# Altium footprint library Flanery.PcbLib: 125 footprints (part 6 of 8)
Each footprint in its own frame and in the unit in brackets; x right, y up, seen from the top. Pads: shape width x height; smd on the part's side, far side on the other; paste and mask are expansions set on the pad; w line width, h text height; cw(c..) or ccw(c..) is an arc to the next point about the centre after c.
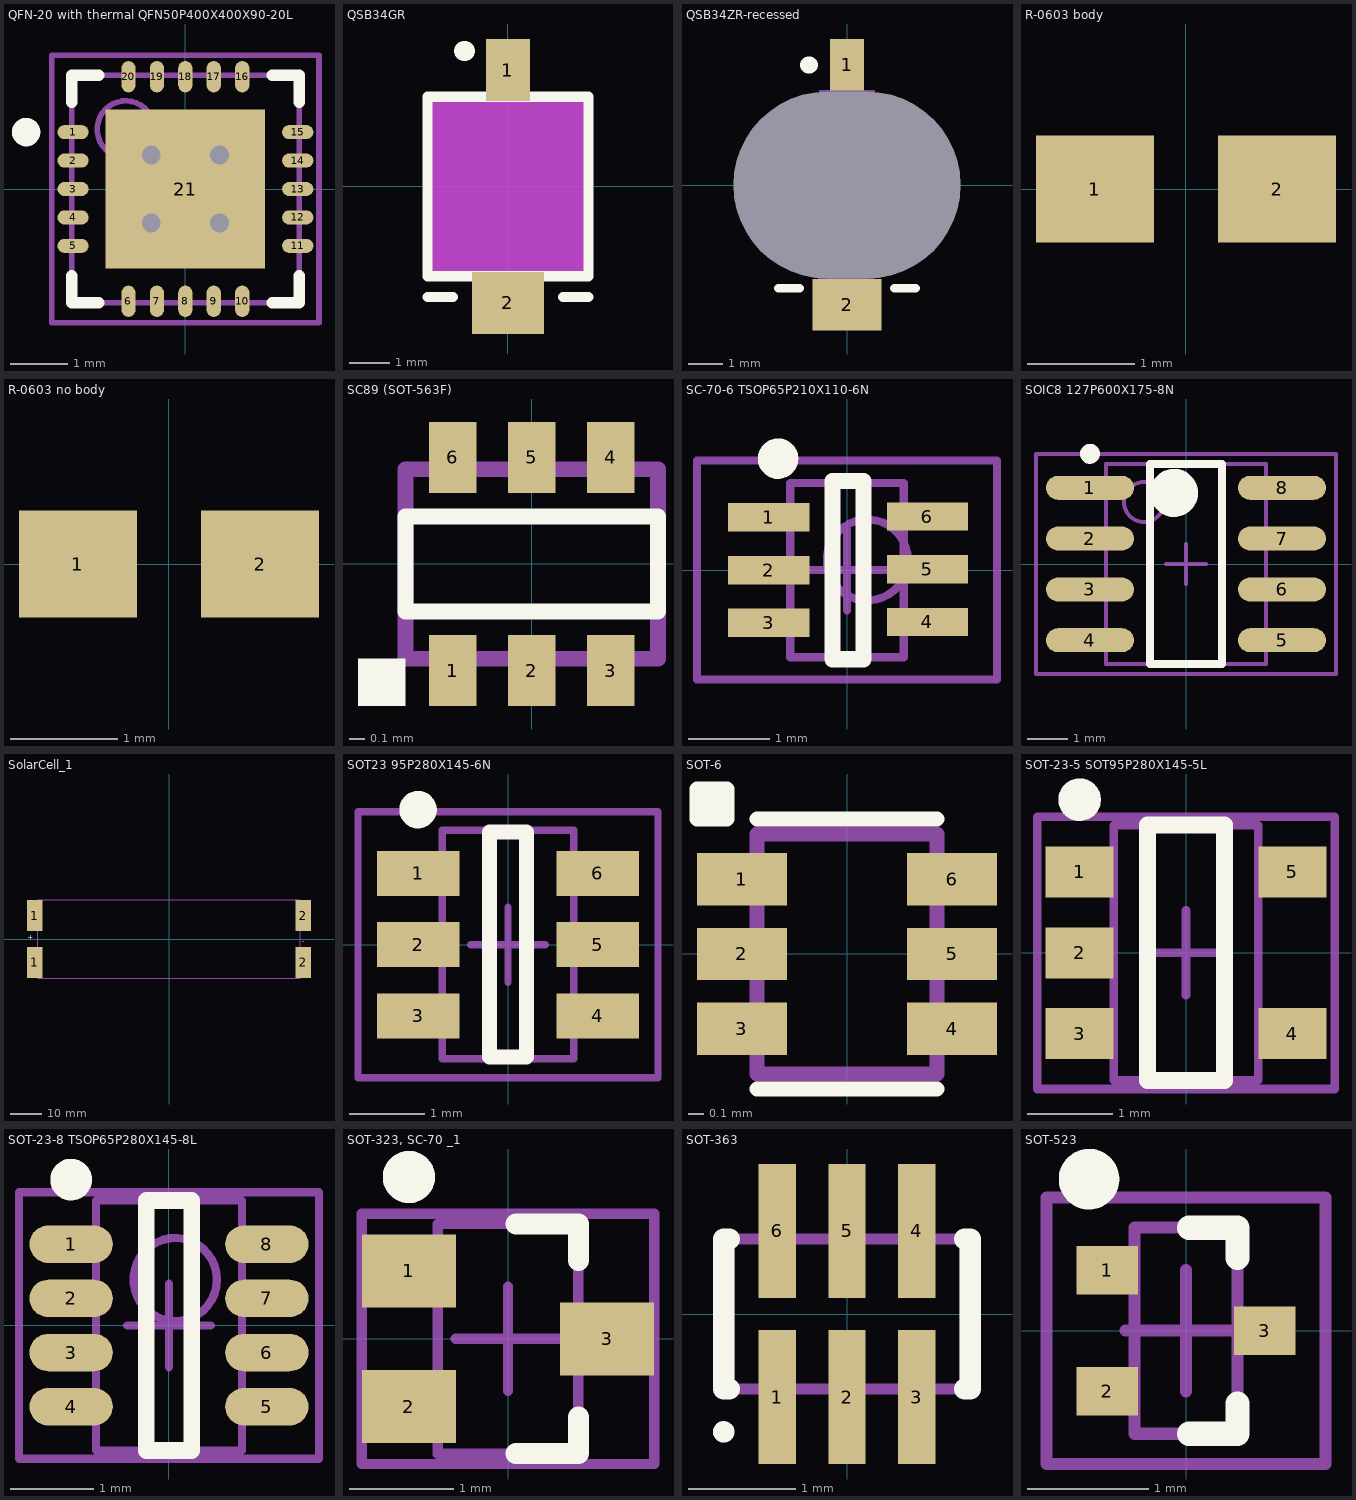
[diagram p5: the footprints below, top view; thin cyan lines are the x and y axes]

## QFN-20 with thermal QFN50P400X400X90-20L [mm] "QFN, 20-Leads, Body 4.0x4.0mm (max), Pitch 0.50mm, IPC High Density"
height 0.9
pads (21):
  oval 0.55x0.25 smd: 1(-1.975,1) 2(-1.975,0.5) 3(-1.975,0) 4(-1.975,-0.5) 5(-1.975,-1) 11(1.975,-1) 12(1.975,-0.5) 13(1.975,0) 14(1.975,0.5) 15(1.975,1)
  oval 0.25x0.55 smd: 6(-1,-1.975) 7(-0.5,-1.975) 8(0,-1.975) 9(0.5,-1.975) 10(1,-1.975) 16(1,1.975) 17(0.5,1.975) 18(0,1.975) 19(-0.5,1.975) 20(-1,1.975)
  rect 2.8x2.8 smd paste-3: 21(0,0)
via -0.6,0.6 diameter 0.66 hole 0.33
via 0.6,0.6 diameter 0.66 hole 0.33
via -0.6,-0.6 diameter 0.66 hole 0.33
via 0.6,-0.6 diameter 0.66 hole 0.33
Top Overlay:
  circle w0.25: c-2.8,1 r0.125
  lines w0.2: -2,-1.525 -2,-2 -1.525,-2 ; -2,1.525 -2,2 -1.525,2 ; 1.525,-2 2,-2 2,-1.525 ; 1.525,2 2,2 2,1.525
Top Paste:
  region: 1.397,1.397 1.397,0.076 0.076,0.076 0.076,1.397
  region: 1.397,-1.397 0.076,-1.397 0.076,-0.076 1.397,-0.076
  region: -1.397,-1.397 -1.397,-0.076 -0.076,-0.076 -0.076,-1.397
  region: -1.397,1.397 -0.076,1.397 -0.076,0.076 -1.397,0.076
Mechanical 13:
  circle w0.1: c-1.05,1.05 r0.5
  lines w0.1: -2,-2 -2,2 2,2 2,-2 -2,-2
Mechanical 15:
  lines w0.1: -0.5,0 0.5,0 ; 0,-0.5 0,0.5 ; -2.35,-2.35 -2.35,2.35 2.35,2.35 2.35,-2.35 -2.35,-2.35
3D body: height 0.9, standoff 0.02, extent -2,-2 2,2

## QSB34GR [mm] "Over-board mount"
height 1.2
pads (2):
  rect 1.1x1.55 smd: 1(0,2.9)
  rect 1.8x1.55 smd: 2(0,-2.9)
Top Overlay:
  lines w0.254: -2,-2.75 -1.375,-2.75 ; 1.375,-2.75 2,-2.75 ; -2.007,-2.235 -2.007,2.235 2.007,2.235 2.007,-2.235 -2.007,-2.235
  lines w0.5: -1.1,3.375 -1.075,3.375
Mechanical 13 keep-out:
  rectangle: -2,-2.25 2,2.25
3D body: height 0.6, standoff 0.5, extent -0.85,-2.75 0.85,-2.225
3D body: height 0.6, standoff 0, extent -0.85,-2.875 0.85,-2.75
3D body: height 0.1, standoff 0, extent -0.85,-3.325 0.85,-2.875
3D body: height 0.1, standoff 0, extent -0.45,2.75 0.45,3.325
3D body: height 0.6, standoff 0.1, extent -0.85,2.75 0.85,2.875
3D body: height 0.6, standoff 0.5, extent -0.85,2.225 0.85,2.75
3D body: height 1.3, standoff 0.1, extent -2.006,-2.235 2.006,2.235

## QSB34ZR-recessed [mm] "Under-board mount"
height 0.1
pads (3):
  rrect100% 0x0 hole 5.436 slot 6.604 at 0 deg unplated: 0(0,0)
  rect 1x1.5 smd: 1(0,3.505)
  rect 2x1.5 smd: 2(0,-3.48)
Top Overlay:
  lines w0.254: -2,-3 -1.375,-3 ; 1.375,-3 2,-3
  lines w0.5: -1.125,3.5 -1.1,3.5
Mechanical 13:
  region: -0.813,2.235 -0.813,2.769 -0.406,2.769 -0.406,3.277 0.406,3.277 0.406,2.769 0.813,2.769 0.813,2.235
  region: 0.787,-2.235 0.787,-3.277 -0.838,-3.277 -0.838,-2.235
Mechanical 13 keep-out:
  rectangle: -2,-2.25 2,2.25
3D body: height 0, standoff -1.2, extent -2,-2.25 2,2.25
3D body: height 0.1, standoff 0, extent -0.838,-3.277 0.787,-2.235
3D body: height 0.1, standoff 0, extent -0.813,2.235 0.813,3.277

## R-0603 body [mm] "Chip Resistor; Body 1.6 x 0.9 mm (LxW typ)"
height 0.55
pads (2):
  rect 1.1x1 smd: 1(-0.85,0) 2(0.85,0)
3D body: height 0.46, standoff 0.01, extent 0.675,-0.425 0.8,0.425
3D body: height 0.46, standoff 0.01, extent -0.8,-0.425 -0.65,0.425
3D body: height 0.46, standoff 0.01, extent -0.65,-0.425 0.675,0.425

## R-0603 no body [mm] "Chip Resistor; Body 1.6 x 0.9 mm (LxW typ)"
height 0.55
pads (2):
  rect 1.1x1 smd: 1(-0.85,0) 2(0.85,0)

## SC89 (SOT-563F) [mm] "For Vishay Si1035"
pads (6):
  rect 0.3x0.45 smd: 1(-0.5,-0.675) 2(0,-0.675) 3(0.5,-0.675) 4(0.5,0.675) 5(0,0.675) 6(-0.5,0.675)
Top Overlay:
  rectangle: -1.1,-0.9 -0.8,-0.6
  lines w0.1: -0.8,-0.3 0.8,-0.3 0.8,0.3 -0.8,0.3 -0.8,-0.3
Mechanical 15:
  lines w0.1: -0.8,-0.6 -0.8,0.6 0.8,0.6 0.8,-0.6 -0.8,-0.6
3D body: height 0.6, standoff 0.01, extent -0.799,-0.599 0.799,0.599

## SC-70-6 TSOP65P210X110-6N [mm] "SC-70, 6-Leads, Body 2.2x1.4mm (max), Pitch 0.65mm, IPC Medium Density"
height 1.1
pads (6):
  rect 1x0.35 smd: 1(-0.965,0.65) 2(-0.965,0) 3(-0.965,-0.65) 4(0.991,-0.64) 5(0.991,0.01) 6(0.991,0.66)
Top Overlay:
  circle w0.25: c-0.85,1.375 r0.125
  lines w0.2: -0.178,-1.1 0.203,-1.1 0.203,1.1 -0.178,1.1 -0.178,-1.1
Mechanical 13:
  circle w0.1: c0.25,0.125 r0.5
  lines w0.1: -0.7,-1.075 0.7,-1.075 0.7,1.075 -0.7,1.075 -0.7,-1.075
Mechanical 15:
  lines w0.1: -0.5,0 0.5,0 ; 0,-0.5 0,0.5 ; -1.85,-1.35 1.85,-1.35 1.85,1.35 -1.85,1.35 -1.85,-1.35
3D body: height 1.1, standoff 0.1, extent -0.7,-1.075 0.7,1.075

## SOIC8 127P600X175-8N [mm] "SOIC, 8-Leads, Body 5.0x4.0mm (max), Pitch 1.27mm, IPC Medium Density"
height 1.75
pads (8):
  oval 2.2x0.6 smd: 1(-2.4,1.905) 2(-2.4,0.635) 3(-2.4,-0.635) 4(-2.4,-1.905) 5(2.4,-1.905) 6(2.4,-0.635) 7(2.4,0.635) 8(2.4,1.905)
Top Overlay:
  circle w0.25: c-2.4,2.755 r0.125
  circle w0.6: c-0.3,1.778 r0.3
  lines w0.2: -0.9,-2.5 -0.9,2.5 0.9,2.5 0.9,-2.5 -0.9,-2.5
Mechanical 13:
  circle w0.1: c-1.05,1.55 r0.5
  lines w0.1: -2,-2.5 -2,2.5 2,2.5 2,-2.5 -2,-2.5
Mechanical 15:
  lines w0.1: -0.5,0 0.5,0 ; 0,-0.5 0,0.5 ; -3.75,-2.75 -3.75,2.75 3.75,2.75 3.75,-2.75 -3.75,-2.75
3D body: height 1.75, standoff 0.1, extent -2,-2.5 2,2.5

## SolarCell_1 [mm] "For PowerFilm SP4.2-37 flexible solar cell 1.5\"x3.3\"x0.007\""
height 0.38
pads (4):
  rect 5x10 smd paste-10: 1(-43,-7.5) 1(-43,7.5) 2(43,-7.5) 2(43,7.5)
Top Overlay:
  text "-" at 43.5,0.5 h3
  text "+" at -43,-0.5 h3
Mechanical 13:
  lines w0.1: -42,-12.5 -42,12.5 42,12.5 42,-12.5 -42,-12.5
3D body: height 0.37, standoff 0.2, extent -42,-12.5 42,12.5

## SOT23 95P280X145-6N [mm] "SOT23, 6-Leads, Body 3.0x3.0mm (max), Pitch 0.95mm, IPC Medium Density"
height 1.45
pads (6):
  rect 1.1x0.6 smd: 1(-1.2,0.95) 2(-1.2,0) 3(-1.2,-0.95) 4(1.2,-0.95) 5(1.2,0) 6(1.2,0.95)
Top Overlay:
  circle w0.25: c-1.2,1.8 r0.125
  lines w0.2: -0.25,-1.5 -0.25,1.5 0.25,1.5 0.25,-1.5 -0.25,-1.5
Mechanical 13:
  lines w0.1: -0.875,-1.525 0.875,-1.525 0.875,1.525 -0.875,1.525 -0.875,-1.525
Mechanical 15:
  lines w0.1: -0.5,0 0.5,0 ; 0,-0.5 0,0.5 ; -2,-1.775 2,-1.775 2,1.775 -2,1.775 -2,-1.775
3D body: height 1.45, standoff 0.1, extent -0.875,-1.525 0.875,1.525

## SOT-6 [mm] "SOT Tiny 6-pin 1.7mm x 1.3mm"
height 0.6
pads (6):
  rect 0.6x0.35 smd: 1(-0.7,0.5) 2(-0.7,0) 3(-0.7,-0.5) 4(0.7,-0.5) 5(0.7,0) 6(0.7,0.5)
Top Overlay:
  lines w0.1: -0.6,-0.9 0.6,-0.9 ; -0.6,0.9 0.6,0.9 ; -1,0.9 -1,1.1 ; -1,0.9 -0.8,0.9 ; -1,0.9 -0.8,1.1 ; -1,1.1 -0.8,1.1 ; -1,1.1 -0.8,0.9 ; -0.8,0.9 -0.8,1.1 ; -0.8,0.9 -0.8,1.1
Mechanical 1:
  lines w0.1: -0.6,-0.8 -0.6,0.8 0.6,0.8 0.6,-0.8 -0.6,-0.8
3D body: height 0.6, standoff 0, extent -0.599,-0.799 0.599,0.799

## SOT-23-5 SOT95P280X145-5L [mm] "SOT23, 5-Leads, Body 3.0x3.0mm (max), Pitch 0.95mm, IPC High Density"
height 1.45
pads (5):
  rect 0.8x0.6 smd: 1(-1.25,0.95) 2(-1.25,0) 3(-1.25,-0.95) 4(1.25,-0.95) 5(1.25,0.95)
Top Overlay:
  circle w0.25: c-1.25,1.8 r0.125
  lines w0.2: -0.45,-1.5 0.45,-1.5 0.45,1.5 -0.45,1.5 -0.45,-1.5
Mechanical 13:
  lines w0.1: -0.85,-1.5 -0.85,1.5 0.85,1.5 0.85,-1.5 -0.85,-1.5
Mechanical 15:
  lines w0.1: -0.5,0 0.5,0 ; 0,-0.5 0,0.5 ; -1.75,-1.6 -1.75,1.6 1.75,1.6 1.75,-1.6 -1.75,-1.6
3D body: height 1.45, standoff 0.05, extent -0.85,-1.5 0.85,1.5

## SOT-23-8 TSOP65P280X145-8L [mm] "TSOP, 8-Leads, Body 3.0x1.8mm (max), Pitch 0.65mm, IPC High Density"
height 1.45
pads (8):
  oval 1x0.45 smd: 1(-1.175,0.975) 2(-1.175,0.325) 3(-1.175,-0.325) 4(-1.175,-0.975) 5(1.175,-0.975) 6(1.175,-0.325) 7(1.175,0.325) 8(1.175,0.975)
Top Overlay:
  circle w0.25: c-1.175,1.75 r0.125
  lines w0.2: -0.275,-1.5 0.275,-1.5 0.275,1.5 -0.275,1.5 -0.275,-1.5
Mechanical 13:
  circle w0.1: c0.075,0.55 r0.5
  lines w0.1: -0.875,-1.5 0.875,-1.5 0.875,1.5 -0.875,1.5 -0.875,-1.5
Mechanical 15:
  lines w0.1: -0.5,0 0.5,0 ; 0,-0.5 0,0.5 ; -1.8,-1.6 1.8,-1.6 1.8,1.6 -1.8,1.6 -1.8,-1.6
3D body: height 1.45, standoff 0.01, extent -0.875,-1.5 0.875,1.5

## SOT-323, SC-70 _1 [mm] "SOT23, 3-Leads, Body 2.2x2.2mm (max), Pitch 0.65mm, IPC High Density"
height 1.1
pads (3):
  rect 0.9x0.7 smd: 1(-0.95,0.65) 2(-0.95,-0.65) 3(0.95,0)
Top Overlay:
  circle w0.25: c-0.95,1.55 r0.125
  lines w0.2: 0.075,-1.1 0.675,-1.1 0.675,-0.75 ; 0.075,1.1 0.675,1.1 0.675,0.75
Mechanical 13:
  lines w0.1: -0.675,-1.1 0.675,-1.1 0.675,1.1 -0.675,1.1 -0.675,-1.1
Mechanical 15:
  lines w0.1: -0.5,0 0.5,0 ; 0,-0.5 0,0.5 ; -1.4,-1.2 1.4,-1.2 1.4,1.2 -1.4,1.2 -1.4,-1.2
3D body: height 1.1, standoff 0.1, extent -0.675,-1.1 0.675,1.1

## SOT-363 [mm] "SOT-363/SC-88; 6 Leads; Body 2.2 x 2.2 mm, inc. leads (LxW max)"
height 1
pads (6):
  rect 0.35x1.25 smd: 1(-0.65,-0.775) 2(0,-0.775) 3(0.65,-0.775) 4(0.65,0.775) 5(0,0.775) 6(-0.65,0.775)
Top Overlay:
  circle w0.1: c-1.15,-1.1 r0.05
  lines w0.2: -1.1,-0.7 -1.15,-0.7 -1.15,0.7 -1.1,0.7 ; 1.1,-0.7 1.15,-0.7 1.15,0.7 1.1,0.7
Mechanical 1:
  lines w0.1: -1.1,-0.7 1.1,-0.7 1.1,0.7 -1.1,0.7 -1.1,-0.7
3D body: height 1, standoff 0, extent -1.099,-0.699 1.099,0.699

## SOT-523 [mm] "For Diodes Inc MOSFET DMN5L06TK"
height 0.8
pads (3):
  rect 0.51x0.4 smd: 1(-0.65,0.5) 2(-0.65,-0.5) 3(0.65,0)
Top Overlay:
  circle w0.25: c-0.8,1.25 r0.125
  lines w0.2: 0.025,-0.85 0.425,-0.85 0.425,-0.6 ; 0.025,0.85 0.425,0.85 0.425,0.6
Mechanical 13:
  lines w0.1: -0.425,-0.85 -0.425,0.85 0.425,0.85 0.425,-0.85 -0.425,-0.85
Mechanical 15:
  lines w0.1: -0.5,0 0.5,0 ; 0,-0.5 0,0.5 ; -1.15,-1.1 -1.15,1.1 1.15,1.1 1.15,-1.1 -1.15,-1.1
3D body: height 0.8, standoff 0.05, extent -0.425,-0.85 0.425,0.85